# Altium schematic symbol library RTL020P02FRATR.SchLib: 1 symbol
Pins are listed as number, name and electrical type; pins without a type are passive.

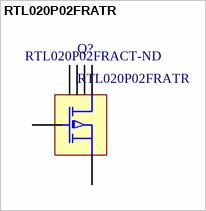
[diagram p0: symbol RTL020P02FRATR]

## RTL020P02FRATR
designator Q?  Supplier Part Number 1: RTL020P02FRACT-ND
2.5V DRIVE PCH MOSFET, AEC-Q101, 20V 2A (Ta) 1W (Ta) Surface Mount TUMT6; ComponentLink1Description: Datasheet; ComponentLink1URL: http://rohmfs.rohm.com/en/products/databook/datasheet/discrete/transistor/mosfet/rtl020p02fra.pdf; Supplier 1: Digi-Key
footprint SOT95P280X145-6N (SOT + Pitch P + Nominal Lead Length X Height - #Pins)
pins: 1 D, 2 D, 3 G, 4 S, 5 D, 6 D